# EAGLE library part AD8692 (library esbd-chips)
AD8692 Analog Devices Low Cost, Low Noise, CMOS, RRO Operational Amplifiers
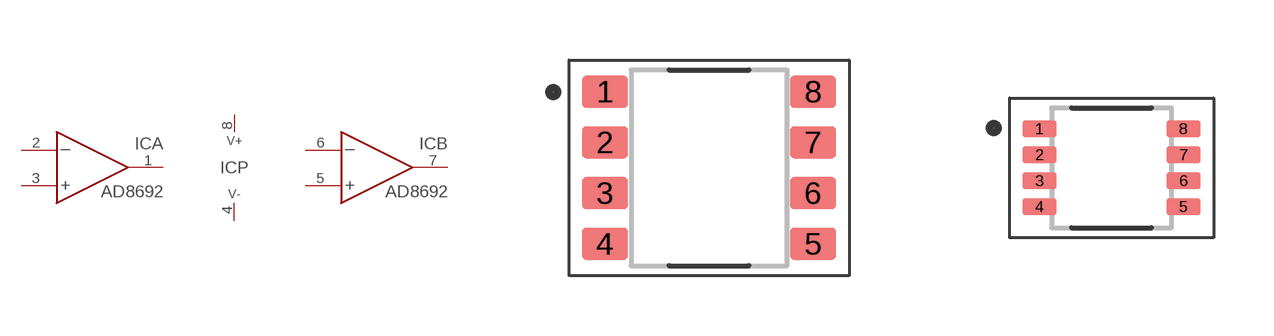
[diagram p7: symbol with the pads of SOIC8_3.90X4.90MM; footprints SOIC8_3.90X4.90MM, SOP8_3.00X3.00MM]

Designator prefix IC; gates A=OPAMP_SIMPLE B=OPAMP_SIMPLE P=POWER_DUAL

## AD8692ARZ  [SOIC8_3.90X4.90MM]
1  A:OUT  out
2  A:IN-  in
3  A:IN+  in
4  P:V-  pwr
5  B:IN+  in
6  B:IN-  in
7  B:OUT  out
8  P:V+  pwr

## AD8692*ARMZ  [SOP8_3.00X3.00MM]
Pads as for SOIC8_3.90X4.90MM

## Footprint SOIC8_3.90X4.90MM (pad centres in mm)
https://www.analog.com/media/en/package-pcb-resources/package/pkg_pdf/ltc-legacy-soic/05081610_G_SO8.pdf
smd 1.15 x 0.8: 1 -2.6,1.905; 2 -2.6,0.635; 3 -2.6,-0.635; 4 -2.6,-1.905; 5 2.6,-1.905; 6 2.6,-0.635; 7 2.6,0.635; 8 2.6,1.905

## Footprint SOP8_3.00X3.00MM (pad centres in mm)
https://assets.nexperia.com/documents/package-information/SOT505-2.pdf
smd 0.85 x 0.4: 1 -1.8,0.975; 2 -1.8,0.325; 3 -1.8,-0.325; 4 -1.8,-0.975; 5 1.8,-0.975; 6 1.8,-0.325; 7 1.8,0.325; 8 1.8,0.975